# Altium footprint library IPC-SM-782 Section 9.5 CFP.PcbLib: 17 footprints (part 1 of 2)
Each footprint in its own frame and in the unit in brackets; x right, y up, seen from the top. Pads: shape width x height; smd on the part's side, far side on the other; paste and mask are expansions set on the pad; w line width, h text height; cw(c..) or ccw(c..) is an arc to the next point about the centre after c.
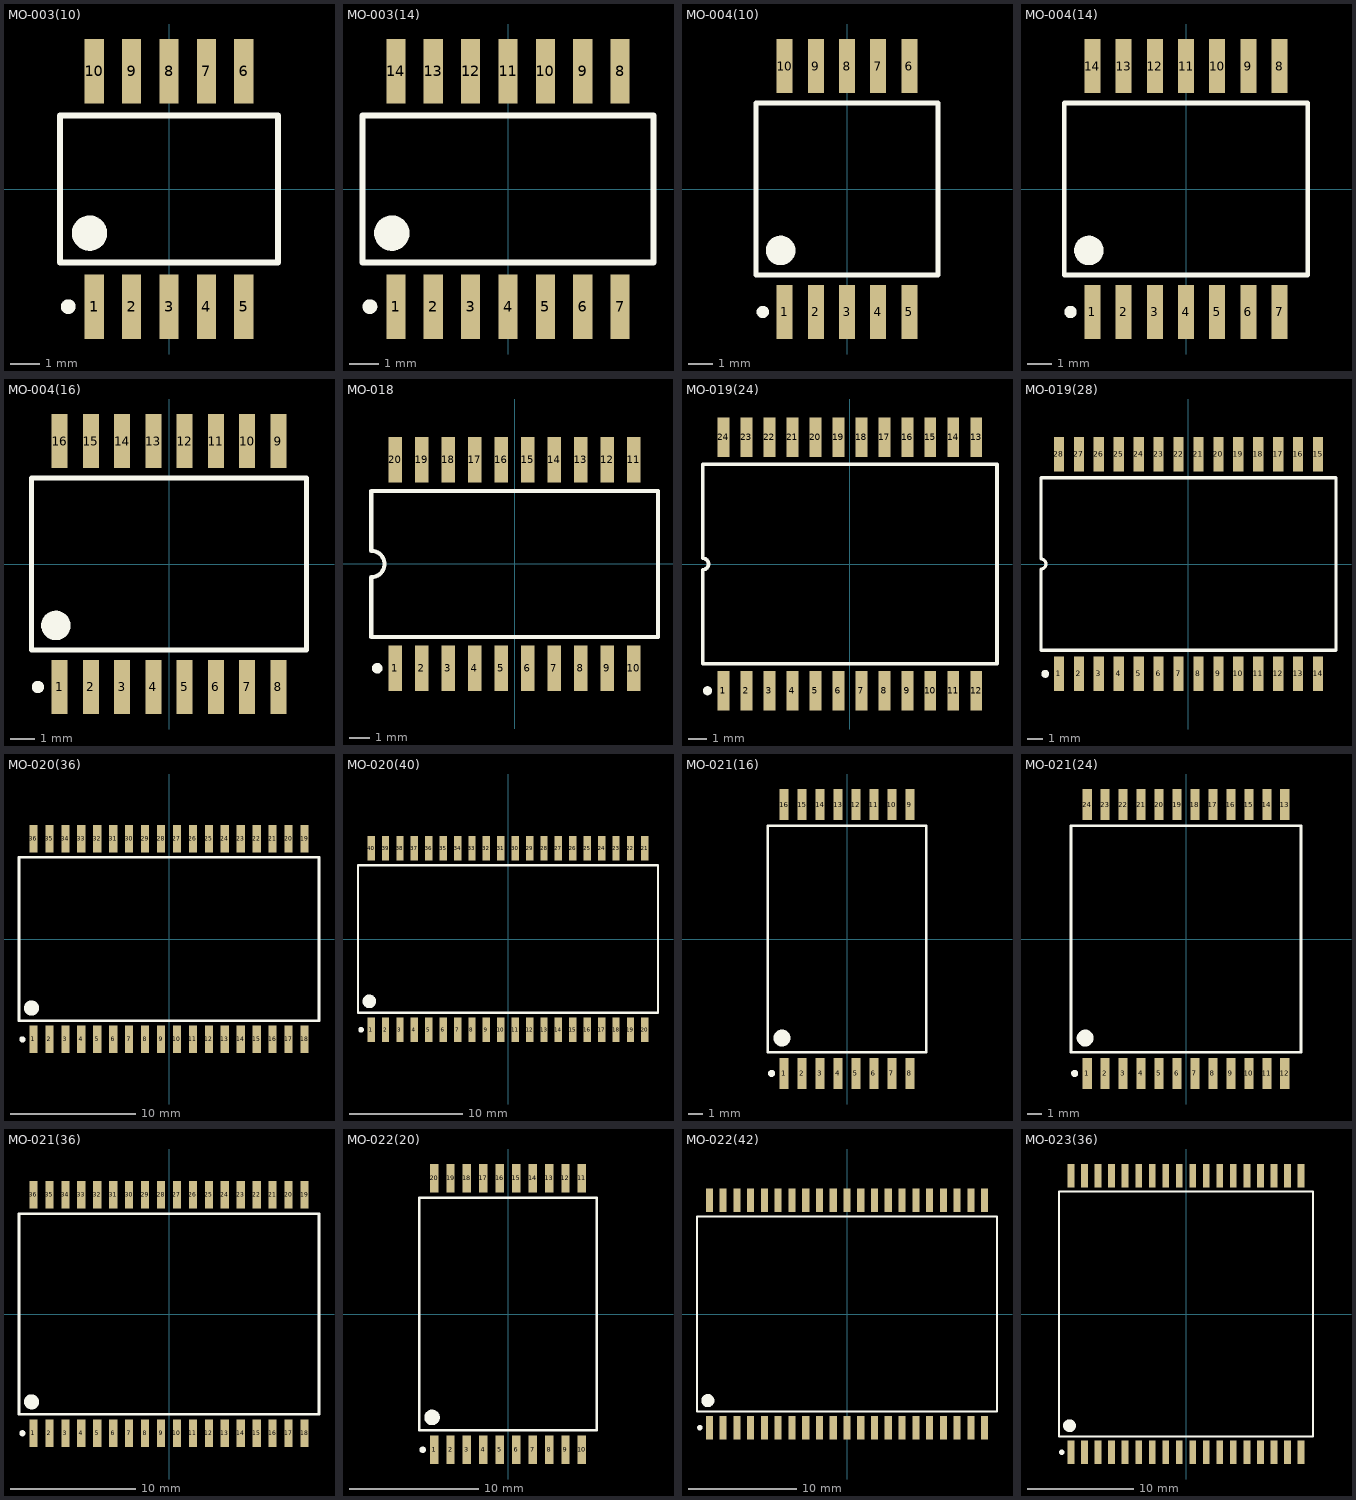
[diagram p0: the footprints below, top view; thin cyan lines are the x and y axes]

## MO-003(10) [mm] "DFP; 10 Leads; Body 7.4 x 5.1 mm (LxW max); Pitch 1.27 mm"
height 2.5
pads (10):
  rect 0.65x2.2 smd: 1(-2.54,-4) 2(-1.27,-4) 3(0,-4) 4(1.27,-4) 5(2.54,-4) 6(2.54,4) 7(1.27,4) 8(0,4) 9(-1.27,4) 10(-2.54,4)
Top Overlay:
  circle w0.25: c-3.425,-4 r0.125
  circle w0.6: c-2.7,-1.5 r0.3
  lines w0.2: -3.7,-2.5 -3.7,-0.635 -3.7,2.5 3.7,2.5 3.7,-2.5 -3.7,-2.5

## MO-003(14) [mm] "DFP; 14 Leads; Body 9.9 x 5.1 mm (LxW max); Pitch 1.27 mm"
height 2.5
pads (14):
  rect 0.65x2.2 smd: 1(-3.81,-4) 2(-2.54,-4) 3(-1.27,-4) 4(0,-4) 5(1.27,-4) 6(2.54,-4) 7(3.81,-4) 8(3.81,4) 9(2.54,4) 10(1.27,4) 11(0,4) 12(-1.27,4) 13(-2.54,4) 14(-3.81,4)
Top Overlay:
  circle w0.25: c-4.695,-4 r0.125
  circle w0.6: c-3.95,-1.5 r0.3
  lines w0.2: -4.95,-2.5 -4.95,-0.635 -4.95,2.5 4.95,2.5 4.95,-2.5 -4.95,-2.5

## MO-004(10) [mm] "DFP; 10 Leads; Body 7.4 x 7.6 mm (LxW max); Pitch 1.27 mm"
height 2.5
pads (10):
  rect 0.65x2.2 smd: 1(-2.54,-5) 2(-1.27,-5) 3(0,-5) 4(1.27,-5) 5(2.54,-5) 6(2.54,5) 7(1.27,5) 8(0,5) 9(-1.27,5) 10(-2.54,5)
Top Overlay:
  circle w0.25: c-3.425,-5 r0.125
  circle w0.6: c-2.7,-2.5 r0.3
  lines w0.2: -3.7,-3.5 -3.7,-0.635 -3.7,3.5 3.7,3.5 3.7,-3.5 -3.7,-3.5

## MO-004(14) [mm] "DFP; 14 Leads; Body 9.9 x 7.6 mm (LxW max); Pitch 1.27 mm"
height 2.5
pads (14):
  rect 0.65x2.2 smd: 1(-3.81,-5) 2(-2.54,-5) 3(-1.27,-5) 4(0,-5) 5(1.27,-5) 6(2.54,-5) 7(3.81,-5) 8(3.81,5) 9(2.54,5) 10(1.27,5) 11(0,5) 12(-1.27,5) 13(-2.54,5) 14(-3.81,5)
Top Overlay:
  circle w0.6: c-3.95,-2.5 r0.3
  circle w0.25: c-4.695,-5 r0.125
  lines w0.2: -4.95,-3.5 4.95,-3.5 4.95,3.5 -4.95,3.5 -4.95,-0.635 -4.95,-3.5

## MO-004(16) [mm] "DFP; 16 Leads; Body 11.2 x 7.6 mm (LxW max); Pitch 1.27 mm"
height 2.5
pads (16):
  rect 0.65x2.2 smd: 1(-4.445,-5) 2(-3.175,-5) 3(-1.905,-5) 4(-0.635,-5) 5(0.635,-5) 6(1.905,-5) 7(3.175,-5) 8(4.445,-5) 9(4.445,5) 10(3.175,5) 11(1.905,5) 12(0.635,5) 13(-0.635,5) 14(-1.905,5) 15(-3.175,5) 16(-4.445,5)
Top Overlay:
  circle w0.6: c-4.6,-2.5 r0.3
  circle w0.25: c-5.33,-5 r0.125
  lines w0.2: -5.6,-3.5 5.6,-3.5 5.6,3.5 -5.6,3.5 -5.6,-0.635 -5.6,-3.5

## MO-018 [mm] "DFP; 20 Leads; Body 13.7 x 10.2 mm (LxW max); Pitch 1.27 mm"
height 2.5
pads (20):
  rect 0.65x2.2 smd: 1(-5.715,-5) 2(-4.445,-5) 3(-3.175,-5) 4(-1.905,-5) 5(-0.635,-5) 6(0.635,-5) 7(1.905,-5) 8(3.175,-5) 9(4.445,-5) 10(5.715,-5) 11(5.715,5) 12(4.445,5) 13(3.175,5) 14(1.905,5) 15(0.635,5) 16(-0.635,5) 17(-1.905,5) 18(-3.175,5) 19(-4.445,5) 20(-5.715,5)
Top Overlay:
  circle w0.25: c-6.59,-5 r0.125
  lines w0.2: -6.875,-3.5 -6.875,-0.635 ccw(c-6.875,0) -6.875,0.635 -6.875,3.5 6.875,3.5 6.875,-3.5 -6.875,-3.5

## MO-019(24) [mm] "DFP; 24 Leads; Body 16.3 x 10.2 mm (LxW max); Pitch 1.27 mm"
height 2.5
pads (24):
  rect 0.65x2.2 smd: 1(-6.985,-7) 2(-5.715,-7) 3(-4.445,-7) 4(-3.175,-7) 5(-1.905,-7) 6(-0.635,-7) 7(0.635,-7) 8(1.905,-7) 9(3.175,-7) 10(4.445,-7) 11(5.715,-7) 12(6.985,-7) 13(6.985,7) 14(5.715,7) 15(4.445,7) 16(3.175,7) 17(1.905,7) 18(0.635,7) 19(-0.635,7) 20(-1.905,7) 21(-3.175,7) 22(-4.445,7) 23(-5.715,7) 24(-6.985,7)
Top Overlay:
  circle w0.25: c-7.86,-7 r0.125
  lines w0.2: -8.125,-5.5 -8.125,-0.317 ccw(c-8.125,0) -8.125,0.318 -8.125,5.5 8.125,5.5 8.125,-5.5 -8.125,-5.5

## MO-019(28) [mm] "DFP; 28 Leads; Body 18.8 x 10.2 mm (LxW max); Pitch 1.27 mm"
height 2.5
pads (28):
  rect 0.65x2.2 smd: 1(-8.255,-7) 2(-6.985,-7) 3(-5.715,-7) 4(-4.445,-7) 5(-3.175,-7) 6(-1.905,-7) 7(-0.635,-7) 8(0.635,-7) 9(1.905,-7) 10(3.175,-7) 11(4.445,-7) 12(5.715,-7) 13(6.985,-7) 14(8.255,-7) 15(8.255,7) 16(6.985,7) 17(5.715,7) 18(4.445,7) 19(3.175,7) 20(1.905,7) 21(0.635,7) 22(-0.635,7) 23(-1.905,7) 24(-3.175,7) 25(-4.445,7) 26(-5.715,7) 27(-6.985,7) 28(-8.255,7)
Top Overlay:
  circle w0.25: c-9.13,-6.999 r0.125
  lines w0.2: -9.4,-5.5 -9.4,-0.318 ccw(c-9.4,0) -9.4,0.318 -9.4,5.5 9.4,5.5 9.4,-5.5 -9.4,-5.5

## MO-020(36) [mm] "DFP; 36 Leads; Body 23.9 x 12.7 mm (LxW max); Pitch 1.27 mm"
height 3
pads (36):
  rect 0.65x2.2 smd: 1(-10.795,-8) 2(-9.525,-8) 3(-8.255,-8) 4(-6.985,-8) 5(-5.715,-8) 6(-4.445,-8) 7(-3.175,-8) 8(-1.905,-8) 9(-0.635,-8) 10(0.635,-8) 11(1.905,-8) 12(3.175,-8) 13(4.445,-8) 14(5.715,-8) 15(6.985,-8) 16(8.255,-8) 17(9.525,-8) 18(10.795,-8) 19(10.795,8) 20(9.525,8) 21(8.255,8) 22(6.985,8) 23(5.715,8) 24(4.445,8) 25(3.175,8) 26(1.905,8) 27(0.635,8) 28(-0.635,8) 29(-1.905,8) 30(-3.175,8) 31(-4.445,8) 32(-5.715,8) 33(-6.985,8) 34(-8.255,8) 35(-9.525,8) 36(-10.795,8)
Top Overlay:
  circle w0.25: c-11.68,-8 r0.125
  circle w0.6: c-10.95,-5.5 r0.3
  lines w0.2: -11.95,-6.5 -11.95,-0.635 -11.95,6.5 11.95,6.5 11.95,-6.5 -11.95,-6.5

## MO-020(40) [mm] "DFP; 40 Leads; Body 26.4 x 12.7 mm (LxW max); Pitch 1.27 mm"
height 3
pads (40):
  rect 0.65x2.2 smd: 1(-12.065,-8) 2(-10.795,-8) 3(-9.525,-8) 4(-8.255,-8) 5(-6.985,-8) 6(-5.715,-8) 7(-4.445,-8) 8(-3.175,-8) 9(-1.905,-8) 10(-0.635,-8) 11(0.635,-8) 12(1.905,-8) 13(3.175,-8) 14(4.445,-8) 15(5.715,-8) 16(6.985,-8) 17(8.255,-8) 18(9.525,-8) 19(10.795,-8) 20(12.065,-8) 21(12.065,8) 22(10.795,8) 23(9.525,8) 24(8.255,8) 25(6.985,8) 26(5.715,8) 27(4.445,8) 28(3.175,8) 29(1.905,8) 30(0.635,8) 31(-0.635,8) 32(-1.905,8) 33(-3.175,8) 34(-4.445,8) 35(-5.715,8) 36(-6.985,8) 37(-8.255,8) 38(-9.525,8) 39(-10.795,8) 40(-12.065,8)
Top Overlay:
  circle w0.6: c-12.225,-5.5 r0.3
  circle w0.25: c-12.95,-8 r0.125
  lines w0.2: -13.225,-6.5 13.225,-6.5 13.225,6.5 -13.225,6.5 -13.225,-0.635 -13.225,-6.5

## MO-021(16) [mm] "DFP; 16 Leads; Body 11.2 x 15.2 mm (LxW max); Pitch 1.27 mm"
height 2.5
pads (16):
  rect 0.65x2.2 smd: 1(-4.445,-9.5) 2(-3.175,-9.5) 3(-1.905,-9.5) 4(-0.635,-9.5) 5(0.635,-9.5) 6(1.905,-9.5) 7(3.175,-9.5) 8(4.445,-9.5) 9(4.445,9.5) 10(3.175,9.5) 11(1.905,9.5) 12(0.635,9.5) 13(-0.635,9.5) 14(-1.905,9.5) 15(-3.175,9.5) 16(-4.445,9.5)
Top Overlay:
  circle w0.25: c-5.33,-9.5 r0.125
  circle w0.6: c-4.6,-7 r0.3
  lines w0.2: -5.6,-8 -5.6,-0.635 -5.6,8 5.6,8 5.6,-8 -5.6,-8

## MO-021(24) [mm] "DFP; 24 Leads; Body 16.3 x 15.2 mm (LxW max); Pitch 1.27 mm"
height 2.5
pads (24):
  rect 0.65x2.2 smd: 1(-6.985,-9.5) 2(-5.715,-9.5) 3(-4.445,-9.5) 4(-3.175,-9.5) 5(-1.905,-9.5) 6(-0.635,-9.5) 7(0.635,-9.5) 8(1.905,-9.5) 9(3.175,-9.5) 10(4.445,-9.5) 11(5.715,-9.5) 12(6.985,-9.5) 13(6.985,9.5) 14(5.715,9.5) 15(4.445,9.5) 16(3.175,9.5) 17(1.905,9.5) 18(0.635,9.5) 19(-0.635,9.5) 20(-1.905,9.5) 21(-3.175,9.5) 22(-4.445,9.5) 23(-5.715,9.5) 24(-6.985,9.5)
Top Overlay:
  circle w0.25: c-7.87,-9.5 r0.125
  circle w0.6: c-7.125,-7 r0.3
  lines w0.2: -8.125,-8 -8.125,-0.635 -8.125,8 8.125,8 8.125,-8 -8.125,-8

## MO-021(36) [mm] "DFP; 36 Leads; Body 23.9 x 15.2 mm (LxW max); Pitch 1.27 mm"
height 3
pads (36):
  rect 0.65x2.2 smd: 1(-10.795,-9.5) 2(-9.525,-9.5) 3(-8.255,-9.5) 4(-6.985,-9.5) 5(-5.715,-9.5) 6(-4.445,-9.5) 7(-3.175,-9.5) 8(-1.905,-9.5) 9(-0.635,-9.5) 10(0.635,-9.5) 11(1.905,-9.5) 12(3.175,-9.5) 13(4.445,-9.5) 14(5.715,-9.5) 15(6.985,-9.5) 16(8.255,-9.5) 17(9.525,-9.5) 18(10.795,-9.5) 19(10.795,9.5) 20(9.525,9.5) 21(8.255,9.5) 22(6.985,9.5) 23(5.715,9.5) 24(4.445,9.5) 25(3.175,9.5) 26(1.905,9.5) 27(0.635,9.5) 28(-0.635,9.5) 29(-1.905,9.5) 30(-3.175,9.5) 31(-4.445,9.5) 32(-5.715,9.5) 33(-6.985,9.5) 34(-8.255,9.5) 35(-9.525,9.5) 36(-10.795,9.5)
Top Overlay:
  circle w0.6: c-10.95,-7 r0.3
  circle w0.25: c-11.68,-9.5 r0.125
  lines w0.2: -11.95,-8 11.95,-8 11.95,8 -11.95,8 -11.95,-0.635 -11.95,-8

## MO-022(20) [mm] "DFP; 20 Leads; Body 13.7 x 17.8 mm (LxW max); Pitch 1.27 mm"
height 2.5
pads (20):
  rect 0.65x2.2 smd: 1(-5.715,-10.5) 2(-4.445,-10.5) 3(-3.175,-10.5) 4(-1.905,-10.5) 5(-0.635,-10.5) 6(0.635,-10.5) 7(1.905,-10.5) 8(3.175,-10.5) 9(4.445,-10.5) 10(5.715,-10.5) 11(5.715,10.5) 12(4.445,10.5) 13(3.175,10.5) 14(1.905,10.5) 15(0.635,10.5) 16(-0.635,10.5) 17(-1.905,10.5) 18(-3.175,10.5) 19(-4.445,10.5) 20(-5.715,10.5)
Top Overlay:
  circle w0.6: c-5.875,-8 r0.3
  circle w0.25: c-6.6,-10.5 r0.125
  lines w0.2: -6.875,-9 6.875,-9 6.875,9 -6.875,9 -6.875,-0.635 -6.875,-9

## MO-022(42) [mm] "DFP; 42 Leads; Body 27.7 x 17.8 mm (LxW max); Pitch 1.27 mm"
height 3
pads (42):
  rect 0.65x2.2 smd: 1(-12.7,-10.5) 2(-11.43,-10.5) 3(-10.16,-10.5) 4(-8.89,-10.5) 5(-7.62,-10.5) 6(-6.35,-10.5) 7(-5.08,-10.5) 8(-3.81,-10.5) 9(-2.54,-10.5) 10(-1.27,-10.5) 11(0,-10.5) 12(1.27,-10.5) 13(2.54,-10.5) 14(3.81,-10.5) 15(5.08,-10.5) 16(6.35,-10.5) 17(7.62,-10.5) 18(8.89,-10.5) 19(10.16,-10.5) 20(11.43,-10.5) 21(12.7,-10.5) 22(12.7,10.5) 23(11.43,10.5) 24(10.16,10.5) 25(8.89,10.5) 26(7.62,10.5) 27(6.35,10.5) 28(5.08,10.5) 29(3.81,10.5) 30(2.54,10.5) 31(1.27,10.5) 32(0,10.5) 33(-1.27,10.5) 34(-2.54,10.5) 35(-3.81,10.5) 36(-5.08,10.5) 37(-6.35,10.5) 38(-7.62,10.5) 39(-8.89,10.5) 40(-10.16,10.5) 41(-11.43,10.5) 42(-12.7,10.5)
Top Overlay:
  circle w0.25: c-13.585,-10.5 r0.125
  circle w0.6: c-12.85,-8 r0.3
  lines w0.2: -13.85,-9 -13.85,-0.635 -13.85,9 13.85,9 13.85,-9 -13.85,-9

## MO-023(36) [mm] "DFP; 36 Leads; Body 23.9 x 22.9 mm (LxW max); Pitch 1.27 mm"
height 3
pads (36):
  rect 0.65x2.2 smd: 1(-10.795,-13) 2(-9.525,-13) 3(-8.255,-13) 4(-6.985,-13) 5(-5.715,-13) 6(-4.445,-13) 7(-3.175,-13) 8(-1.905,-13) 9(-0.635,-13) 10(0.635,-13) 11(1.905,-13) 12(3.175,-13) 13(4.445,-13) 14(5.715,-13) 15(6.985,-13) 16(8.255,-13) 17(9.525,-13) 18(10.795,-13) 19(10.795,13) 20(9.525,13) 21(8.255,13) 22(6.985,13) 23(5.715,13) 24(4.445,13) 25(3.175,13) 26(1.905,13) 27(0.635,13) 28(-0.635,13) 29(-1.905,13) 30(-3.175,13) 31(-4.445,13) 32(-5.715,13) 33(-6.985,13) 34(-8.255,13) 35(-9.525,13) 36(-10.795,13)
Top Overlay:
  circle w0.25: c-11.68,-13 r0.125
  circle w0.6: c-10.95,-10.5 r0.3
  lines w0.2: -11.95,-11.5 -11.95,-0.635 -11.95,11.5 11.95,11.5 11.95,-11.5 -11.95,-11.5